# Altium footprint library RD-dz.PcbLib: 28 footprints (part 1 of 2)
Each footprint in its own frame and in the unit in brackets; x right, y up, seen from the top. Pads: shape width x height; smd on the part's side, far side on the other; paste and mask are expansions set on the pad; w line width, h text height; cw(c..) or ccw(c..) is an arc to the next point about the centre after c.
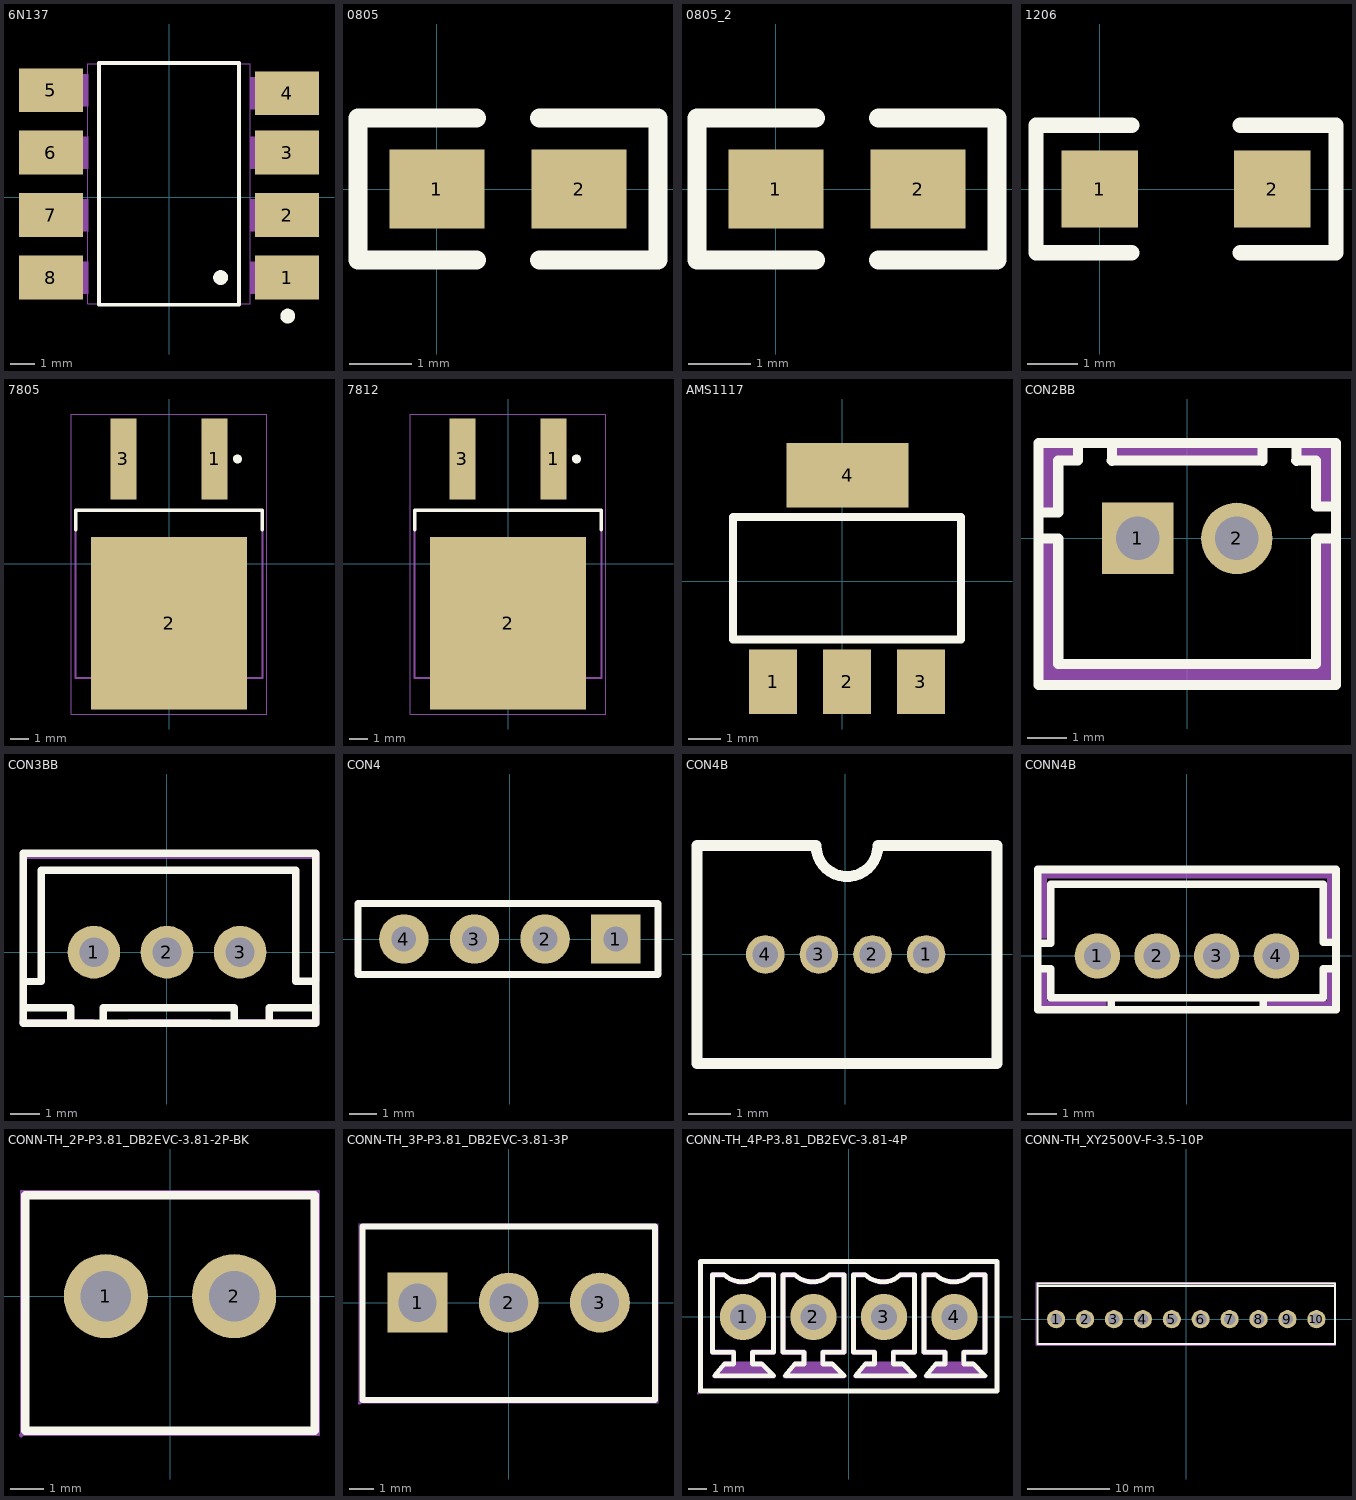
[diagram p0: the footprints below, top view; thin cyan lines are the x and y axes]

## 6N137 [mm]
pads (8):
  rect 2.6x1.78 smd mask+0.102: 1(4.796,-3.258) 2(4.796,-0.718) 3(4.796,1.822) 4(4.796,4.235) 5(-4.804,4.362) 6(-4.804,1.822) 7(-4.804,-0.718) 8(-4.804,-3.258)
Top Overlay:
  circle w0.3: c2.095,-3.258 r0.15
  circle w0.3: c4.826,-4.826 r0.15
  lines w0.152: -2.855,-4.365 2.847,-4.365 2.847,5.468 -2.855,5.468 -2.855,-4.365
Mechanical 6:
  circle w0.6: c5.33,-3.258 r0.3
Mechanical 15:
  region: -3.294,3.712 -4.564,3.712 -4.564,5.012 -3.294,5.012
  region: -4.554,3.712 -5.154,3.712 -5.154,5.012 -4.554,5.012
  region: -3.294,1.172 -4.564,1.172 -4.564,2.472 -3.294,2.472
  region: -4.554,1.172 -5.154,1.172 -5.154,2.472 -4.554,2.472
  region: -3.294,-1.368 -4.564,-1.368 -4.564,-0.068 -3.294,-0.068
  region: -4.554,-1.368 -5.154,-1.368 -5.154,-0.068 -4.554,-0.068
  region: -3.294,-3.908 -4.564,-3.908 -4.564,-2.608 -3.294,-2.608
  region: -4.554,-3.908 -5.154,-3.908 -5.154,-2.608 -4.554,-2.608
  region: 4.556,3.585 3.286,3.585 3.286,4.885 4.556,4.885
  region: 5.146,3.585 4.546,3.585 4.546,4.885 5.146,4.885
  region: 4.556,1.172 3.286,1.172 3.286,2.472 4.556,2.472
  region: 5.146,1.172 4.546,1.172 4.546,2.472 5.146,2.472
  region: 4.556,-1.368 3.286,-1.368 3.286,-0.068 4.556,-0.068
  region: 5.146,-1.368 4.546,-1.368 4.546,-0.068 5.146,-0.068
  region: 4.556,-3.908 3.286,-3.908 3.286,-2.608 4.556,-2.608
  region: 5.146,-3.908 4.546,-3.908 4.546,-2.608 5.146,-2.608
  lines w0.051: -3.304,-4.328 3.296,-4.328 3.296,5.432 -3.304,5.432 -3.304,-4.328

## 0805 [mil]
height 62.99
pads (2):
  rect 60x50 smd: 1(0,0) 2(90,0)
Top Overlay:
  lines w12: 25,-45 -50,-45 -50,45 25,45 ; 65,-45 140,-45 140,45 65,45

## 0805_2 [mil]
pads (2):
  rect 60x50 smd: 1(0,0) 2(90,0)
Top Overlay:
  lines w12: 25,-45 -50,-45 -50,45 25,45 ; 65,-45 140,-45 140,45 65,45

## 1206 [mil]
pads (2):
  rect 60x60 smd: 1(0,0) 2(135,0)
Top Overlay:
  lines w12: 25,-50 -50,-50 -50,50 25,50 ; 110,-50 185,-50 185,50 110,50

## 7805 [mm]
height 1.6
pads (3):
  rect 1.45x4.5 smd: 1(2.54,5.848) 3(-2.54,5.848)
  rect 8.7x9.6 smd: 2(0,-3.302)
Top Overlay:
  circle w0.25: c3.815,5.848 r0.125
  lines w0.2: -5.2,1.898 -5.2,2.998 5.2,2.998 5.2,1.898
Mechanical 13:
  lines w0.1: -5.2,-6.352 -5.2,2.998 5.2,2.998 5.2,-6.352 -5.2,-6.352
Mechanical 15:
  lines w0.05: -5.45,-8.352 -5.45,8.348 5.45,8.348 5.45,-8.352 -5.45,-8.352
  lines w0.1: -0.5,-0.002 0.5,-0.002 ; 0,-0.502 0,0.498
3D body: height 4.67, standoff 0.45, extent -5.2,-6.352 5.2,2.998

## 7812 [mm]
height 1.6
pads (3):
  rect 1.45x4.5 smd: 1(2.54,5.848) 3(-2.54,5.848)
  rect 8.7x9.6 smd: 2(0,-3.302)
Top Overlay:
  circle w0.25: c3.815,5.848 r0.125
  lines w0.2: -5.2,1.898 -5.2,2.998 5.2,2.998 5.2,1.898
Mechanical 13:
  lines w0.1: -5.2,-6.352 5.2,-6.352 5.2,2.998 -5.2,2.998 -5.2,-6.352
Mechanical 15:
  lines w0.05: -5.45,-8.352 5.45,-8.352 5.45,8.348 -5.45,8.348 -5.45,-8.352
  lines w0.1: -0.5,-0.002 0.5,-0.002 ; 0,-0.502 0,0.498
3D body: height 4.67, standoff 0.45, extent -5.2,-6.352 5.2,2.998

## AMS1117 [mil]
height 62.99
pads (4):
  rect 59x79 smd: 1(-84.88,-123.54) 2(5.67,-123.54) 3(96.22,-123.54)
  rect 150x79 smd: 4(6.34,130)
Top Overlay:
  lines w10: -134.33,-71.54 -134.33,78.46 145.67,78.46 145.67,-71.54 -134.33,-71.54

## CON2BB [mm]
pads (2):
  rect 1.8x1.8 hole 1.1 paste+0 mask+0.05: 1(-1.25,0)
  round 1.8 hole 1.1 paste+0 mask+0.05: 2(1.25,0)
Top Overlay:
  lines w0.254: -3.75,-2.416 -3.75,0 -3.25,0 -3.25,-2.416 -3.25,-3.167 3.25,-3.167 3.25,-2.344 3.25,0 3.75,0 3.75,-2.344 ; -3.75,-1.603 -3.75,0.648 -3.25,0.65 -3.25,1.958 -2.75,1.958 -2.75,2.408 ; -1.9,1.95 -1.9,2.4 ; -1.9,1.958 1.9,1.958 ; 1.9,1.95 1.9,2.4 ; 2.75,1.95 2.75,2.399 ; 2.75,1.958 3.25,1.958 3.25,0.8 3.75,0.8 3.75,-1.501 ; -3.75,-3.7 -3.75,2.4 3.75,2.4 3.75,-3.7 -3.75,-3.7
Mechanical 6:
  region: 1.9,2.4 1.9,1.9 -1.9,1.9 -1.9,2.4
  region: 3.25,0 3.75,0 3.75,-3.7 -3.75,-3.7 -3.75,-0.05 -3.25,0 -3.25,-3.167 3.25,-3.167
  region: -2.75,1.9 -3.241,1.9 -3.25,1.908 -3.25,0.75 -3.75,0.75 -3.75,2.35 -2.751,2.35 -2.75,2.349
  region: 2.75,1.95 3.242,1.95 3.25,1.958 3.25,0.8 3.75,0.8 3.75,2.4 2.751,2.4 2.75,2.399
Mechanical 15:
  region: -3.69,-3.5 -3.69,-3.475 -3.725,-3.44 -3.775,-3.44 -3.81,-3.475 -3.81,-3.5 -3.81,-3.525 -3.775,-3.56 -3.725,-3.56 -3.69,-3.525 -3.69,-3.5
  region: -1.57,0.32 -0.93,0.32 -0.93,-0.32 -1.57,-0.32
  region: 0.93,0.32 1.57,0.32 1.57,-0.32 0.93,-0.32
  lines w0.051: -3.75,-3.5 3.75,-3.5 3.75,2.4 -3.75,2.4 -3.75,-3.5

## CON3BB [mm]
pads (3):
  round 1.8 hole 1 paste+0 mask+0.05: 1(-2.5,0) 2(0,0) 3(2.5,0)
Top Overlay:
  lines w0.254: -4.918,-2.432 -4.918,3.368 ; -4.918,-1.9 -3.288,-1.9 -3.288,-2.438 ; -4.918,-1.005 -4.301,-1.005 -4.301,2.8 4.399,2.8 4.399,-1 5.093,-1 ; -4.915,-2.438 5.085,-2.438 ; -4.915,3.378 5.085,3.378 ; -2.183,-2.438 -2.183,-1.9 2.299,-1.9 2.299,-2.438 ; 3.499,-2.438 3.499,-1.9 3.862,-1.9 5.093,-1.9 ; 5.093,-2.413 5.093,3.378
Mechanical 6:
  region: 4.999,-2.3 4.999,-1.8 5.199,-1.8 5.199,-2.3
  region: 5.199,-1 5.199,3.4 4.999,3.4 4.999,-1
  region: -4.8,-1 -4.8,3.4 -5,3.4 -5,-1
  region: -5,-2.3 -5,-1.8 -4.8,-1.8 -4.8,-2.3
  region: -1.301,-2.3 -1.301,-2.5 1.499,-2.5 1.499,-2.3
  region: 5.199,-2.3 5.199,-2.5 2.299,-2.5 2.299,-2.3
  region: -5.001,-2.3 -2.501,-2.3 -2.501,-2.5 -5.001,-2.5
  region: -4.801,3.4 4.999,3.4 4.999,3.2 -4.801,3.2
Mechanical 15:
  region: -2.8,0.3 -2.2,0.3 -2.2,-0.3 -2.8,-0.3
  region: -0.3,0.3 0.3,0.3 0.3,-0.3 -0.3,-0.3
  region: 2.2,0.3 2.8,0.3 2.8,-0.3 2.2,-0.3
  region: -4.941,-2.4 -4.941,-2.375 -4.976,-2.34 -5.026,-2.34 -5.061,-2.375 -5.061,-2.4 -5.061,-2.425 -5.026,-2.46 -4.977,-2.46 -4.941,-2.425 -4.941,-2.4
  lines w0.051: -5.001,-2.4 4.999,-2.4 4.999,3.4 -5.001,3.4 -5.001,-2.4

## CON4 [mil]
height 62.99
pads (4):
  rect 70x70 hole 35: 1(150,0)
  round 70 hole 35: 2(50,0) 3(-50,0) 4(-150,0)
Top Overlay:
  lines w10: -215,-50 -215,50 210,50 210,-50 -215,-50

## CON4B [mm]
pads (4):
  round 0.9 hole 0.6: 1(1.885,0) 2(0.635,0) 3(-0.615,0) 4(-1.865,0)
Top Overlay:
  lines w0.254: -3.46,-2.54 -3.46,2.54 -0.682,2.54 ccw(c0.04,2.54) 0.762,2.54 3.54,2.54 3.54,-2.54 -3.46,-2.54

## CONN4B [mil]
pads (4):
  round 60 hole 36 paste+0 mask+1.97: 1(-118.11,0) 2(-39.37,0) 3(39.37,0) 4(118.11,0)
Top Overlay:
  lines w10: -196.85,-17.06 -180,-17.06 -180,-55 180,-55 180,-16.58 196.85,-16.58 ; -196.85,17.01 -180,17.01 -180,95 180,95 180,18.42 196.85,18.42 ; -99.87,-70.87 -99.87,-55 ; 100.63,-70.86 100.63,-55 ; -196.85,-70.87 -196.85,114.17 196.85,114.17 196.85,-70.86 -196.85,-70.87
Mechanical 6:
  region: 192.91,-19.68 185.04,-19.68 185.04,-59.05 106.3,-59.05 106.3,-66.93 192.91,-66.93
  region: -185.04,23.62 -185.04,102.36 185.04,102.36 185.04,23.62 192.91,23.62 192.91,110.24 -192.91,110.24 -192.91,23.62
  region: -192.91,-19.68 -185.04,-19.68 -185.04,-59.05 -106.3,-59.05 -106.3,-66.93 -192.91,-66.93
Mechanical 15:
  region: 108.27,9.84 127.95,9.84 127.95,-9.84 108.27,-9.84
  region: 29.53,9.84 49.21,9.84 49.21,-9.84 29.53,-9.84
  region: -49.21,9.84 -29.53,9.84 -29.53,-9.84 -49.21,-9.84
  region: -127.95,9.84 -108.27,9.84 -108.27,-9.84 -127.95,-9.84
  region: -194.49,-68.9 -194.49,-67.92 -195.87,-66.54 -197.83,-66.54 -199.21,-67.92 -199.21,-68.9 -199.21,-69.88 -197.83,-71.26 -195.87,-71.26 -194.49,-69.88 -194.49,-68.9
  lines w2: -196.85,-68.9 196.85,-68.9 196.85,116.14 -196.85,116.14 -196.85,-68.9

## CONN-TH_2P-P3.81_DB2EVC-3.81-2P-BK [mm]
pads (2):
  round 2.5 hole 1.5: 1(-1.905,0) 2(1.905,0)
Top Overlay:
  lines w0.254: -4.3,-4 4.3,-4 4.3,3 -4.3,3 -4.3,-4
Mechanical 15:
  region: 2.555,0 2.553,0.128 2.453,0.364 2.27,0.544 2.033,0.641 1.777,0.641 1.54,0.544 1.357,0.364 1.257,0.128 1.255,0 1.257,-0.128 1.357,-0.364 1.54,-0.544 1.777,-0.642 2.033,-0.642 2.27,-0.544 2.453,-0.364 2.553,-0.128 2.555,0
  region: -1.255,0 -1.257,0.128 -1.357,0.364 -1.54,0.544 -1.777,0.641 -2.033,0.641 -2.27,0.544 -2.453,0.364 -2.553,0.128 -2.555,0 -2.553,-0.128 -2.453,-0.364 -2.27,-0.544 -2.033,-0.642 -1.777,-0.642 -1.54,-0.544 -1.357,-0.364 -1.257,-0.128 -1.255,0
  region: -4.367,-4.127 -4.367,-4.102 -4.402,-4.067 -4.452,-4.067 -4.487,-4.102 -4.487,-4.127 -4.487,-4.152 -4.452,-4.187 -4.402,-4.187 -4.367,-4.152 -4.367,-4.127
  lines w0.051: -4.427,-4.127 -4.427,3.127 4.427,3.127 4.427,-4.127 -4.427,-4.127

## CONN-TH_3P-P3.81_DB2EVC-3.81-3P [mm]
pads (3):
  rect 2.5x2.5 hole 1.6: 1(-3.81,0)
  round 2.5 hole 1.6: 2(0,0) 3(3.81,0)
Top Overlay:
  lines w0.254: -6.11,-4.064 -6.11,3.175 6.11,3.175 6.11,-4.064 -6.11,-4.064
Mechanical 15:
  region: -3.11,0 -3.111,0.091 -3.16,0.267 -3.253,0.425 -3.383,0.553 -3.542,0.644 -3.719,0.691 -3.901,0.691 -4.078,0.644 -4.237,0.553 -4.367,0.425 -4.46,0.267 -4.509,0.091 -4.51,0 -4.509,-0.091 -4.46,-0.267 -4.367,-0.425 -4.237,-0.553 -4.078,-0.644 -3.901,-0.691 -3.719,-0.691 -3.542,-0.644 -3.383,-0.553 -3.253,-0.425 -3.16,-0.267 -3.111,-0.091 -3.11,0
  region: 0.7,0 0.699,0.091 0.65,0.267 0.557,0.425 0.427,0.553 0.268,0.644 0.091,0.691 -0.091,0.691 -0.268,0.644 -0.427,0.553 -0.557,0.425 -0.65,0.267 -0.699,0.091 -0.7,0 -0.699,-0.091 -0.65,-0.267 -0.557,-0.425 -0.427,-0.553 -0.268,-0.644 -0.091,-0.691 0.091,-0.691 0.268,-0.644 0.427,-0.553 0.557,-0.425 0.65,-0.267 0.699,-0.091 0.7,0
  region: 4.51,0 4.509,0.091 4.46,0.267 4.367,0.425 4.237,0.553 4.078,0.644 3.901,0.691 3.719,0.691 3.542,0.644 3.383,0.553 3.253,0.425 3.16,0.267 3.111,0.091 3.11,0 3.111,-0.091 3.16,-0.267 3.253,-0.425 3.383,-0.553 3.542,-0.644 3.719,-0.691 3.901,-0.691 4.078,-0.644 4.237,-0.553 4.367,-0.425 4.46,-0.267 4.509,-0.091 4.51,0
  region: -6.177,-4.191 -6.177,-4.166 -6.212,-4.131 -6.262,-4.131 -6.297,-4.166 -6.297,-4.191 -6.297,-4.216 -6.262,-4.251 -6.212,-4.251 -6.177,-4.216 -6.177,-4.191
  lines w0.051: -6.237,-4.191 6.237,-4.191 6.237,3.302 -6.237,3.302 -6.237,-4.191

## CONN-TH_4P-P3.81_DB2EVC-3.81-4P [mm]
pads (4):
  round 2.5 hole 1.4 paste+0 mask+0.05: 1(-5.715,0) 2(-1.905,0) 3(1.905,0) 4(5.715,0)
Top Overlay:
  lines w0.254: -8.001,-4 -8.001,-1.905 ; -4.848,2.264 cw(c-5.715,3.131) -5.715,1.905 -5.811,1.905 cw(c-5.811,3.206) -6.731,2.286 -7.366,2.286 -7.366,-1.905 -6.604,-1.905 -6.223,-1.905 -6.223,-2.54 -6.731,-2.54 -7.239,-3.175 -4.064,-3.175 -4.699,-2.54 -5.207,-2.54 -5.207,-1.905 -4.064,-1.905 -4.064,2.286 -4.826,2.286 ; -1.038,2.264 cw(c-1.905,3.131) -1.905,1.905 -2.001,1.905 cw(c-2.001,3.206) -2.921,2.286 -3.556,2.286 -3.556,-1.905 -2.794,-1.905 -2.413,-1.905 -2.413,-2.54 -2.921,-2.54 -3.429,-3.175 -0.254,-3.175 -0.889,-2.54 -1.397,-2.54 -1.397,-1.905 -0.254,-1.905 -0.254,2.286 -1.016,2.286 ; 2.772,2.264 cw(c1.905,3.131) 1.905,1.905 1.809,1.905 cw(c1.809,3.206) 0.889,2.286 0.254,2.286 0.254,-1.905 1.016,-1.905 1.397,-1.905 1.397,-2.54 0.889,-2.54 0.381,-3.175 3.556,-3.175 2.921,-2.54 2.413,-2.54 2.413,-1.905 3.556,-1.905 3.556,2.286 2.794,2.286 ; 6.582,2.264 cw(c5.715,3.131) 5.715,1.905 5.619,1.905 cw(c5.619,3.206) 4.699,2.286 4.064,2.286 4.064,-1.905 4.826,-1.905 5.207,-1.905 5.207,-2.54 4.699,-2.54 4.191,-3.175 7.366,-3.175 6.731,-2.54 6.223,-2.54 6.223,-1.905 7.366,-1.905 7.366,2.286 6.604,2.286 ; 8.001,-4 8.001,-1.905 ; -8.015,-4 -8.015,3 8.015,3 8.015,-4 -8.015,-4
Mechanical 6:
  drawing of 24 lines, arcs and shapes, not listed
Mechanical 15:
  region: -8.082,-4.128 -8.082,-4.103 -8.117,-4.068 -8.167,-4.068 -8.202,-4.103 -8.202,-4.128 -8.202,-4.152 -8.167,-4.187 -8.117,-4.187 -8.082,-4.152 -8.082,-4.128
  region: -6.115,0.4 -5.315,0.4 -5.315,-0.4 -6.115,-0.4
  region: -2.305,0.4 -1.505,0.4 -1.505,-0.4 -2.305,-0.4
  region: 1.505,0.4 2.305,0.4 2.305,-0.4 1.505,-0.4
  region: 5.315,0.4 6.115,0.4 6.115,-0.4 5.315,-0.4
  lines w0.051: -8.015,-4 -8.015,3 8.015,3 8.015,-4 -8.015,-4

## CONN-TH_XY2500V-F-3.5-10P [mm]
pads (10):
  round 2.2 hole 1.4: 1(-15.75,0) 2(-12.25,0) 3(-8.75,0) 4(-5.25,0) 5(-1.75,0) 6(1.75,0) 7(5.25,0) 8(8.75,0) 9(12.25,0) 10(15.75,0)
Top Overlay:
  lines w0.254: -18,-3 18,-3 18,4 -18,4 -18,-3 ; -18,4.018 18,4.018 18,4.318 -18,4.318 -18,4.018
Mechanical 15:
  drawing of 15 lines, arcs and shapes, not listed